# EAGLE library part TMP117 (library LITAF_TEMPTRESS)
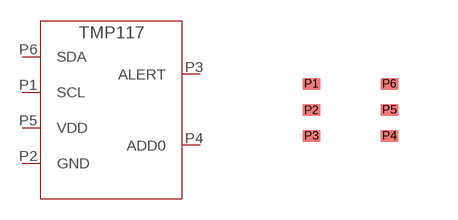
[diagram p1: symbol with the pads of DRV0006B; footprint DRV0006B]

Designator prefix -

## TMP117  [DRV0006B]
P1  SCL
P2  GND
P3  ALERT
P4  ADD0
P5  VDD
P6  SDA

## Footprint DRV0006B (pad centres in mm)
smd 0.45 x 0.3: P1 -0.975,0.65; P2 -0.975,-0.01; P3 -0.975,-0.65; P4 0.975,-0.65; P5 0.975,0; P6 0.975,0.65